# EAGLE library part 74FCT3244/A (library idt)
BUFFER/LINE DRIVER
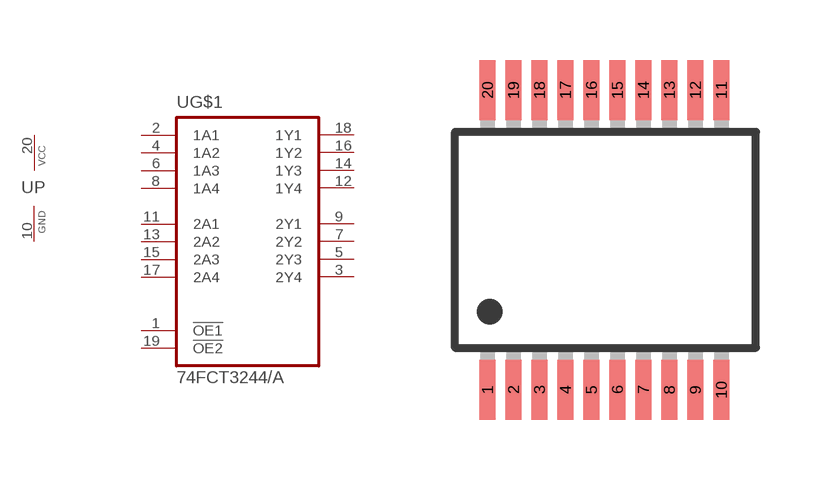
[diagram p0: symbol with the pads of SSOP20-DB; footprint SSOP20-DB]

Designator prefix U; gates G$1=74FCT3244/A P=PWR_VCCGND

## 74FCT3244/A  [SSOP20-DB]
1  G$1:!OE1!  in
2  G$1:1A1  in
3  G$1:2Y4  out
4  G$1:1A2  in
5  G$1:2Y3  out
6  G$1:1A3  in
7  G$1:2Y2  out
8  G$1:1A4  in
9  G$1:2Y1  out
10  P:GND  pwr
11  G$1:2A1  in
12  G$1:1Y4  out
13  G$1:2A2  in
14  G$1:1Y3  out
15  G$1:2A3  in
16  G$1:1Y2  out
17  G$1:2A4  in
18  G$1:1Y1  out
19  G$1:!OE2!  in
20  P:VCC  pwr

## Footprint SSOP20-DB (pad centres in mm)
Small Shrink Outline Package 7.5 x 5.6 mm body, JEDEC MO-150
smd 0.4 x 1.5: 1 -2.925,-3.75; 2 -2.275,-3.75; 3 -1.625,-3.75; 4 -0.975,-3.75; 5 -0.325,-3.75; 6 0.325,-3.75; 7 0.975,-3.75; 8 1.625,-3.75; 9 2.275,-3.75; 10 2.925,-3.75; 11 2.925,3.75; 12 2.275,3.75; 13 1.625,3.75; 14 0.975,3.75; 15 0.325,3.75; 16 -0.325,3.75; 17 -0.975,3.75; 18 -1.625,3.75; 19 -2.275,3.75; 20 -2.925,3.75